# EAGLE library part PCF8574_DW_16 (library 0_texas-instrument)
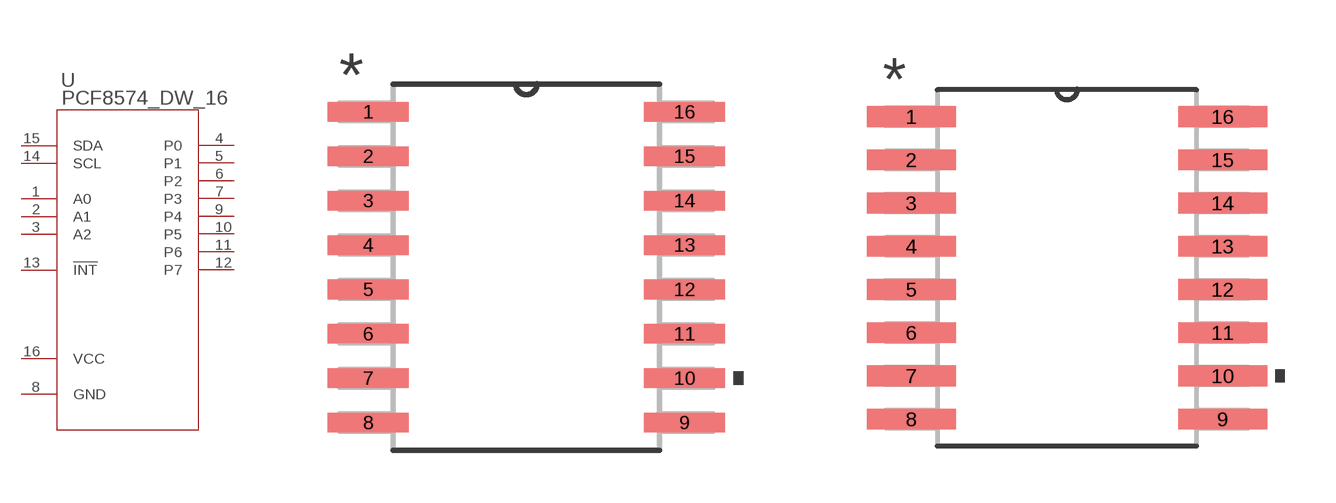
[diagram p4: symbol with the pads of DW16; footprints DW16, DW16-M]

Designator prefix U

## PCF8574_DW_16 (MANUFACTURER_PART_NUMBER: pcf8574_dw_16; VENDOR: Texas Instruments)  [DW16]
1  A0  in
2  A1  in
3  A2  in
4  P0
5  P1
6  P2
7  P3
8  GND  pwr
9  P4
10  P5
11  P6
12  P7
13  !INT  out
14  SCL  pas
15  SDA  pas
16  VCC  pwr

## PCF8574_DW_16DW16-M (MANUFACTURER_PART_NUMBER: pcf8574_dw_16; VENDOR: Texas Instruments)  [DW16-M]
Pads as for DW16

## PCF8574_DW_16DW16-L (MANUFACTURER_PART_NUMBER: pcf8574_dw_16; VENDOR: Texas Instruments)  [DW16-L]
Pads as for DW16

## Footprint DW16 (pad centres in mm)
smd 2.311 x 0.559: 1 -4.521,4.445; 2 -4.521,3.175; 3 -4.521,1.905; 4 -4.521,0.635; 5 -4.521,-0.635; 6 -4.521,-1.905; 7 -4.521,-3.175; 8 -4.521,-4.445; 9 4.521,-4.445; 10 4.521,-3.175; 11 4.521,-1.905; 12 4.521,-0.635; 13 4.521,0.635; 14 4.521,1.905; 15 4.521,3.175; 16 4.521,4.445

## Footprint DW16-M (pad centres in mm)
smd 2.616 x 0.61: 1 -4.572,4.445; 2 -4.572,3.175; 3 -4.572,1.905; 4 -4.572,0.635; 5 -4.572,-0.635; 6 -4.572,-1.905; 7 -4.572,-3.175; 8 -4.572,-4.445; 9 4.572,-4.445; 10 4.572,-3.175; 11 4.572,-1.905; 12 4.572,-0.635; 13 4.572,0.635; 14 4.572,1.905; 15 4.572,3.175; 16 4.572,4.445

## Footprint DW16-L (pad centres in mm)
smd 2.007 x 0.508: 1 -4.47,4.445; 2 -4.47,3.175; 3 -4.47,1.905; 4 -4.47,0.635; 5 -4.47,-0.635; 6 -4.47,-1.905; 7 -4.47,-3.175; 8 -4.47,-4.445; 9 4.47,-4.445; 10 4.47,-3.175; 11 4.47,-1.905; 12 4.47,-0.635; 13 4.47,0.635; 14 4.47,1.905; 15 4.47,3.175; 16 4.47,4.445